# Altium integrated library IntLibrary.IntLib: 5 symbols
Pins are listed as number, name and electrical type; pins without a type are passive.

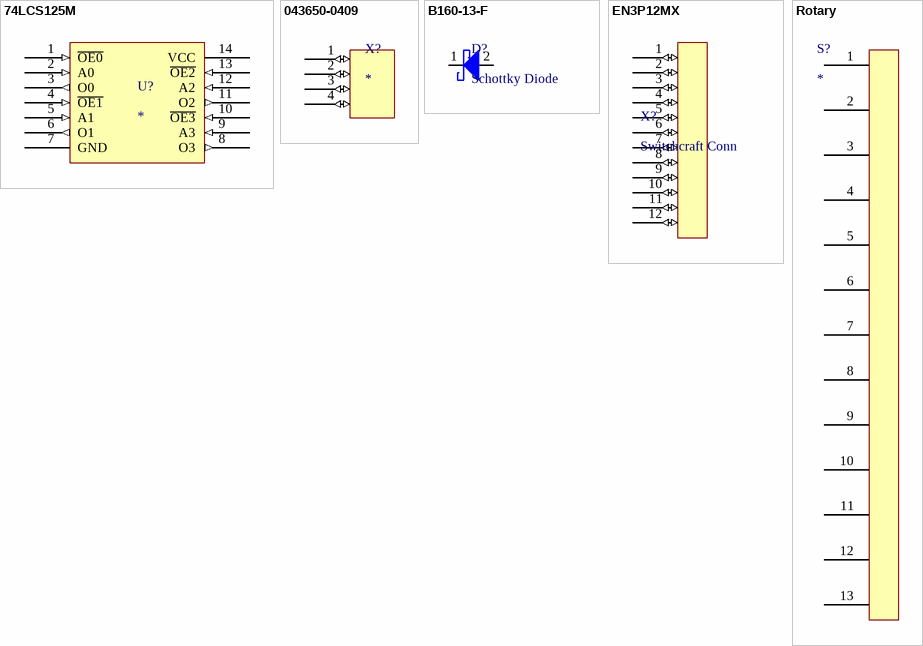
[diagram p0: symbols 74LCS125M to Rotary]

## 74LCS125M
designator U?
Low Voltage Quad Buffer with 5V tolerant Inputs and Outputs; ComponentLink1Description: Digikey Link; ComponentLink1URL: https://www.digikey.com/product-detail/en/on-semiconductor/74LCX125MX/74LCX125MXCT-ND/965496
footprint SOIC127P780X210-14M (SOIC, 14-Leads, Body 10.30x5.25mm, Pitch 1.27mm, IPC Low Density)
pins: 1 ~{OE0} (in), 2 A0 (in), 3 O0 (out), 4 ~{OE1} (in), 5 A1 (in), 6 O1 (out), 7 GND (power), 8 O3 (out), 9 A3 (in), 10 ~{OE3} (in), 11 O2 (out), 12 A2 (in), 13 ~{OE2} (in), 14 VCC (power)

## 043650-0409
designator X?
footprint 043650-0409
pins: 1 (io), 2 (io), 3 (io), 4 (io)

## B160-13-F
designator D?, comment Schottky Diode
footprint DIOM4326X24N (Molded Diode, 2-Leads, Body 4.30x2.61mm, IPC Medium Density)
pins: 1, 2

## EN3P12MX
designator X?, comment Switchcraft Conn
footprint EN3P12MX (Switchcraft Connector)
pins: 1 (io), 2 (io), 3 (io), 4 (io), 5 (io), 6 (io), 7 (io), 8 (io), 9 (io), 10 (io), 11 (io), 12 (io)

## Rotary
designator S?
footprint Rotary
pins: 1, 2, 3, 4, 5, 6, 7, 8, 9, 10, 11, 12, 13